# EAGLE library part M06X2 (library iStivi - Header-Connector)
M06x02
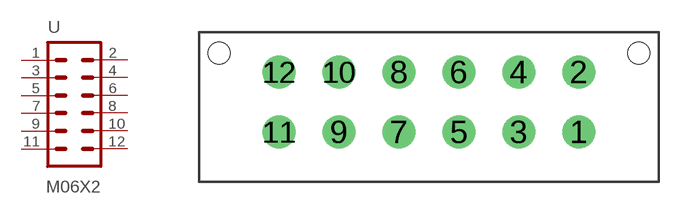
[diagram p14: symbol with the pads of MOLEX_6X2-43045-V; footprint MOLEX_6X2-43045-V]

Designator prefix -

## M06X2  [MOLEX_6X2-43045-V]
1  1  pas
2  2  pas
3  3  pas
4  4  pas
5  5  pas
6  6  pas
7  7  pas
8  8  pas
9  9  pas
10  10  pas
11  11  pas
12  12  pas

## Footprint MOLEX_6X2-43045-V (pad centres in mm)
12 Pin (6x2) Molex 43045 vertical header
drill 1.1: 1 7.5,-1.5; 2 7.5,1.5; 3 4.5,-1.5; 4 4.5,1.5; 5 1.5,-1.5; 6 1.5,1.5; 7 -1.5,-1.5; 8 -1.5,1.5; 9 -4.5,-1.5; 10 -4.5,1.5; 11 -7.5,-1.5; 12 -7.5,1.5
hole 1.1 at -10.5,2.44
hole 1.1 at 10.5,2.44